# Altium footprint library TP4056_SOP-8-EP_Battery_Management_IC.PcbLib: 1 footprints
Each footprint in its own frame and in the unit in brackets; x right, y up, seen from the top. Pads: shape width x height; smd on the part's side, far side on the other; paste and mask are expansions set on the pad; w line width, h text height; cw(c..) or ccw(c..) is an arc to the next point about the centre after c.
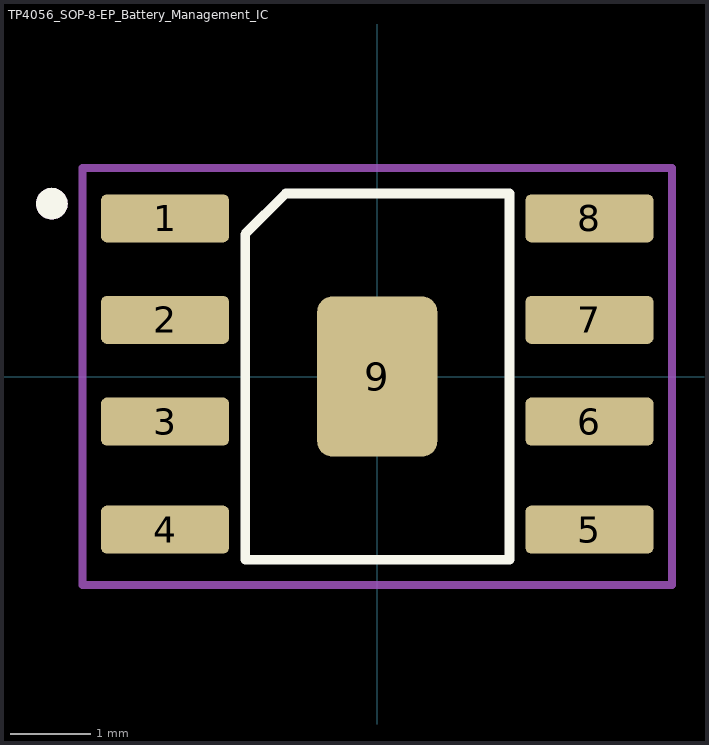
[diagram p0: the footprint, top view; thin cyan lines are the x and y axes]

## TP4056_SOP-8-EP_Battery_Management_IC [mm] "TP4056_SOP-8-EP_Battery_Management_IC"
pads (11):
  rrect25% 1.6x0.6 smd: 1(-2.65,1.975) 2(-2.65,0.708) 3(-2.65,-0.562) 4(-2.65,-1.911) 5(2.65,-1.911) 6(2.65,-0.562) 7(2.65,0.708) 8(2.65,1.975)
  rrect25% 1.5x2 smd: 9(0,0)
  round 0.4 on Top Overlay: ""(-4.064,2.159)
  round 0.4 on Mech1: ""(-4.064,2.159)
Top Layer:
Top Overlay:
  lines w0.12: -1.651,-2.286 -1.651,1.778 -1.143,2.286 1.651,2.286 1.651,-2.286 0.826,-2.286 -0.826,-2.286 -1.651,-2.286
Mechanical 1:
  lines w0.1: -3.683,-2.603 3.683,-2.603 3.683,2.603 -3.683,2.603 -3.683,-2.603 ; -1.651,-2.286 -0.826,-2.286 0.826,-2.286 1.651,-2.286 1.651,2.286 -1.143,2.286 -1.651,1.778 -1.651,-2.286
  text ".Designator" at 0.247,0.468 h1.3
Top Courtyard:
  text "+" at -0.666,-1 h2
3D body "SOP-8 (2).STEP": height 1.87, standoff 0, extent -3.11,-2.5 3.11,2.5